# Altium footprint library HC-SR04.PcbLib: 1 footprints
Each footprint in its own frame and in the unit in brackets; x right, y up, seen from the top. Pads: shape width x height; smd on the part's side, far side on the other; paste and mask are expansions set on the pad; w line width, h text height; cw(c..) or ccw(c..) is an arc to the next point about the centre after c.
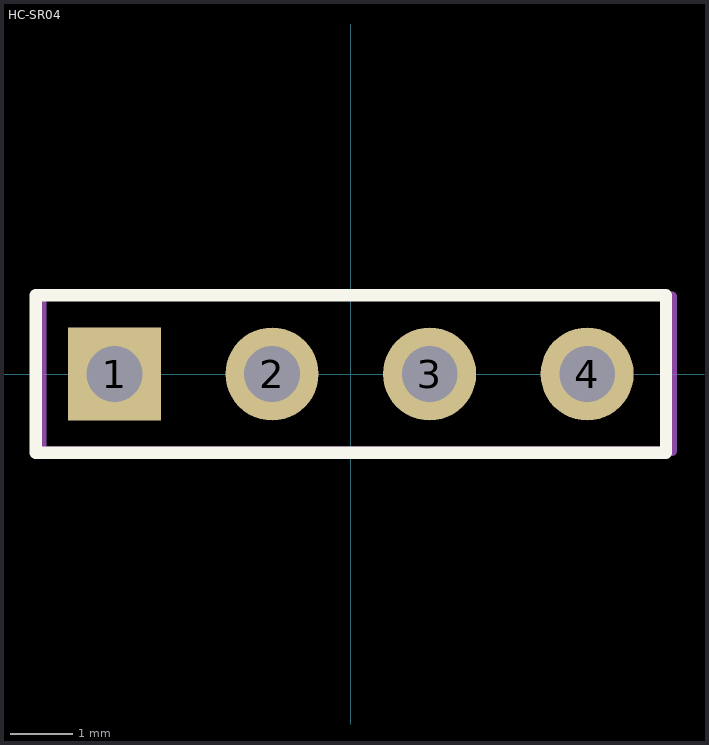
[diagram p0: the footprint, top view; thin cyan lines are the x and y axes]

## HC-SR04 [mm]
pads (4):
  rect 1.5x1.5 hole 0.9: 1(-3.81,0)
  round 1.5 hole 0.9: 2(-1.27,0) 3(1.27,0) 4(3.81,0)
Top Overlay:
  lines w0.2: -5.08,-1.27 5.08,-1.27 5.08,1.27 -5.08,1.27 -5.08,-1.27
Mechanical 13:
  lines w0.15: -4.98,-1.246 5.18,-1.246 5.18,1.253 -4.98,1.253 -4.98,-1.246
3D body "HC-SR04.stp": height 20.37, standoff -0.02, extent -22.429,-18.692 23.191,-3.302
3D body "m20-9750446_asm.stp": height 3.27, standoff -2.27, extent -5.08,-9.709 5.08,0.311